# EAGLE library part 74LVCH2T45DC,125 (library ruark2)
Voltage Level Translator Level Shifter Bidirectional 1 Circuit 2 Channel 420Mbps 8-VSSOP
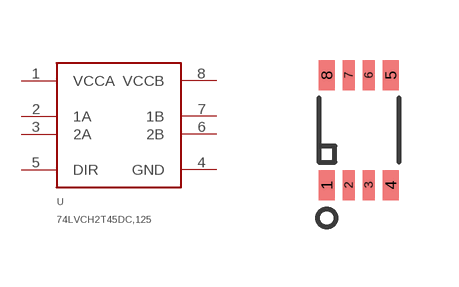
[diagram p123: symbol with the pads of VSSOP8; footprint VSSOP8]

Designator prefix U

## 74LVCH2T45DC,125 (PARTNO: 1727-4596-1-ND)  [VSSOP8]
1  VCCA
2  1A
3  2A
4  GND
5  DIR
6  2B
7  1B
8  VCCB

## Footprint VSSOP8 (pad centres in mm)
smd 0.4 x 0.75: 1 -0.8,-1.375; 4 0.8,-1.375; 5 0.8,1.375; 8 -0.8,1.375
smd 0.3 x 0.75: 2 -0.25,-1.375; 3 0.25,-1.375; 6 0.25,1.375; 7 -0.25,1.375